# Altium schematic symbol library IC Clock.SchLib: 2 symbols
Pins are listed as number, name and electrical type; pins without a type are passive.

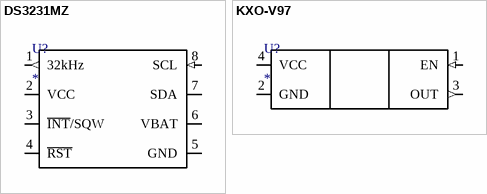
[diagram p0: symbols DS3231MZ to KXO-V97]

## DS3231MZ
designator U?
Name: *
pins: 1 32kHz (out), 2 VCC (power), 3 ~{INT}/SQW (io), 4 ~{RST} (io), 5 GND (power), 6 VBAT (power), 7 SDA (io), 8 SCL (in)

## KXO-V97
designator U?
XO; Name: *
pins: 1 EN (in), 2 GND (power), 3 OUT (out), 4 VCC (power)